# EAGLE library part RELAY (library rc)
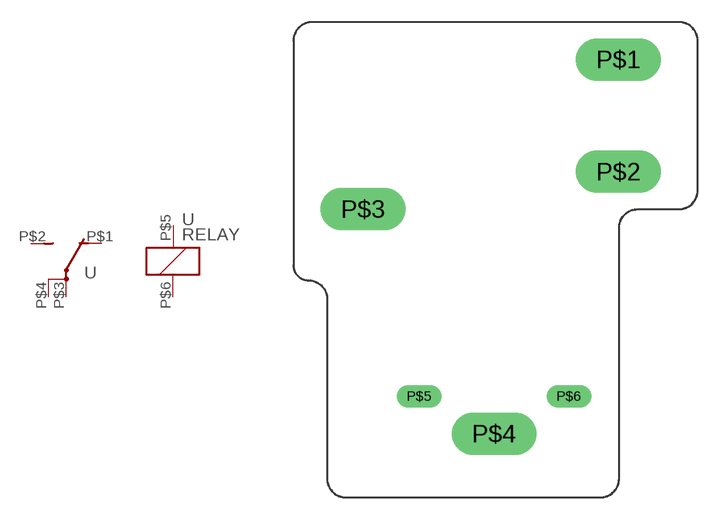
[diagram p2: symbol with the pads of T90S; footprint T90S]

Designator prefix -; gates G$3=RELAYPWR G$1=RELAY

## RELAY  [T90S]
P$1  G$3:NC  pas
P$2  G$3:NO  pas
P$3  G$3:C1  pas
P$4  G$3:C2  pas
P$5  G$1:1  pas
P$6  G$1:2  pas

## Footprint T90S (pad centres in mm)
drill 1.93 long: P$1 22.047,-2.54; P$2 22.047,-10.16; P$3 4.724,-12.7; P$4 13.614,-27.94
drill 1.016 long: P$5 8.534,-25.4; P$6 18.694,-25.4